# EAGLE library part LP324D (library LP324D)
Texas Instruments LP324D, Quad Op Amp, 0.1MHz, 5 28 V, 14-Pin SOIC Source: Datasheet <https://www.ti.com/lit/ds/symlink/lp324.pdf?ts=1617974975875&ref_url=https%3A%2F%2Fwww.ti.com%2Fproduct%2FLP324>
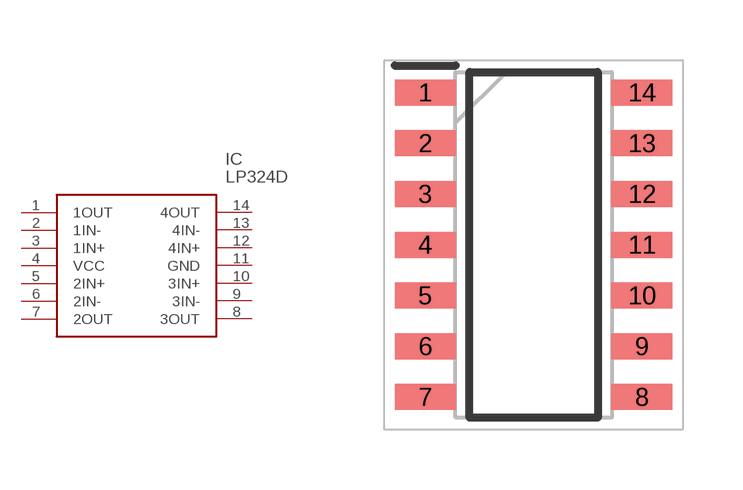
[diagram p0: symbol with the pads of SOIC127P600X175-14N; footprint SOIC127P600X175-14N]

Designator prefix IC

## LP324D (Description: Texas Instruments LP324D, Quad Op Amp, 0.1MHz, 5 28 V, 14-Pin SOIC; Height: 1.75mm; Manufacturer_Name: Texas Instruments; Manufacturer_Part_Number: LP324D; Mouser_Part_Number: 595-LP324D; Mouser_Price-Stock: https://www.mouser.com/Search/Refine.aspx?Keyword=595-LP324D)  [SOIC127P600X175-14N]
1  1OUT
2  1IN-
3  1IN+
4  VCC
5  2IN+
6  2IN-
7  2OUT
8  3OUT
9  3IN-
10  3IN+
11  GND
12  4IN+
13  4IN-
14  4OUT

## Footprint SOIC127P600X175-14N (pad centres in mm)
D (-R-PDSO-G14)
smd 1.525 x 0.65: 1 -2.712,3.81; 2 -2.712,2.54; 3 -2.712,1.27; 4 -2.712,0; 5 -2.712,-1.27; 6 -2.712,-2.54; 7 -2.712,-3.81; 8 2.712,-3.81; 9 2.712,-2.54; 10 2.712,-1.27; 11 2.712,0; 12 2.712,1.27; 13 2.712,2.54; 14 2.712,3.81